# EAGLE library part DS1232LP (library texas_ffmc)
Low Power MicroMonitor Chip Source: DALLAS SEMICONDUCTOR .. 1232lp.pdf
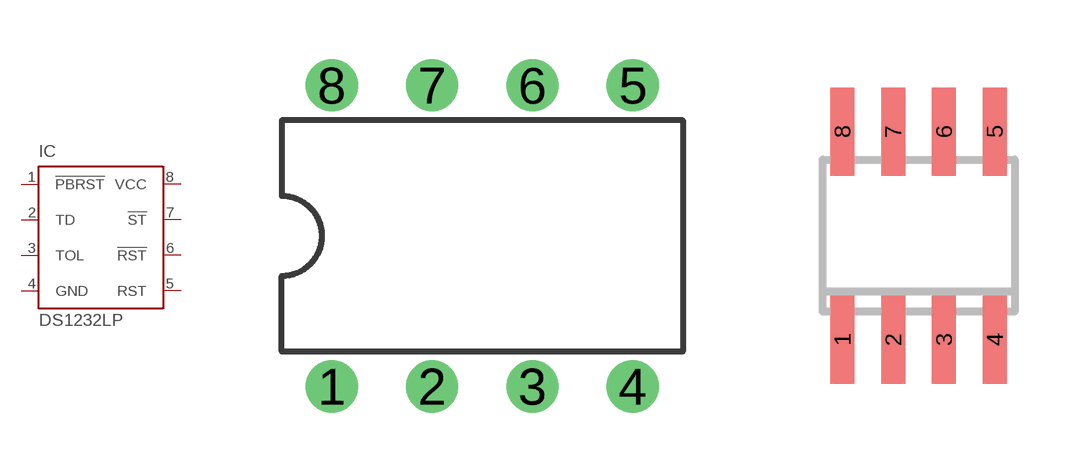
[diagram p109: symbol with the pads of DIL08; footprints DIL08, SO-08]

Designator prefix IC

## DS1232LP (MPN: DS1232LP+; OC_FARNELL: 1187997; OC_NEWARK: 68K3327)  [DIL08]
1  !PBRST  in
2  TD  in
3  TOL  in
4  GND  pwr
5  RST  out
6  !RST  out
7  !ST  in
8  VCC  pwr

## DS1232LPS-2 (MF: DALLAS SEMICONDUCTOR; MPN: DS1232LPS-2; OC_FARNELL: 9724877; OC_NEWARK: 06F4304)  [SO-08]
Pads as for DIL08

## DS1232LPS (MPN: DS1232LPS+; OC_FARNELL: unknown; OC_NEWARK: 99K1954)  [SO-16DW]
2  !PBRST  in
4  TD  in
6  TOL  in
8  GND  pwr
9  RST  out
11  !RST  out
13  !ST  in
15  VCC  pwr

## Footprint DIL08 (pad centres in mm)
Dual In Line Package
drill 0.813 pad 1.27: 1 -3.81,-3.81; 2 -1.27,-3.81; 3 1.27,-3.81; 4 3.81,-3.81; 5 3.81,3.81; 6 1.27,3.81; 7 -1.27,3.81; 8 -3.81,3.81

## Footprint SO-08 (pad centres in mm)
D (R-PDSO-G8) Plastic Small Outline Package Source: http://focus.ti.com/lit/ds/symlink/sn65als176.pdf
smd 0.6 x 2.2: 1 -1.905,-2.6; 2 -0.635,-2.6; 3 0.635,-2.6; 4 1.905,-2.6; 5 1.905,2.6; 6 0.635,2.6; 7 -0.635,2.6; 8 -1.905,2.6

## Footprint SO-16DW (pad centres in mm)
DW (RPDSO-G16) Source: http://focus.ti.com/lit/ds/symlink/iso1176.pdf
smd 0.6 x 2.2: 1 -4.445,-4.6; 2 -3.175,-4.6; 3 -1.905,-4.6; 4 -0.635,-4.6; 5 0.635,-4.6; 6 1.905,-4.6; 7 3.175,-4.6; 8 4.445,-4.6; 9 4.445,4.6; 10 3.175,4.6; 11 1.905,4.6; 12 0.635,4.6; 13 -0.635,4.6; 14 -1.905,4.6; 15 -3.175,4.6; 16 -4.445,4.6